# Altium schematic symbol library Hand_PCB.SchLib: 1 symbol
Pins are listed as number, name and electrical type; pins without a type are passive.

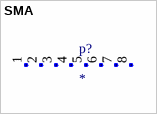
[diagram p0: symbol SMA]

## SMA
designator p?
pins: 1, 2, 3, 4, 5, 6, 7, 8